# Altium integrated library Linear Technology Operational Amplifiers (LT1000).IntLib: 2280 symbols (part 38 of 79)
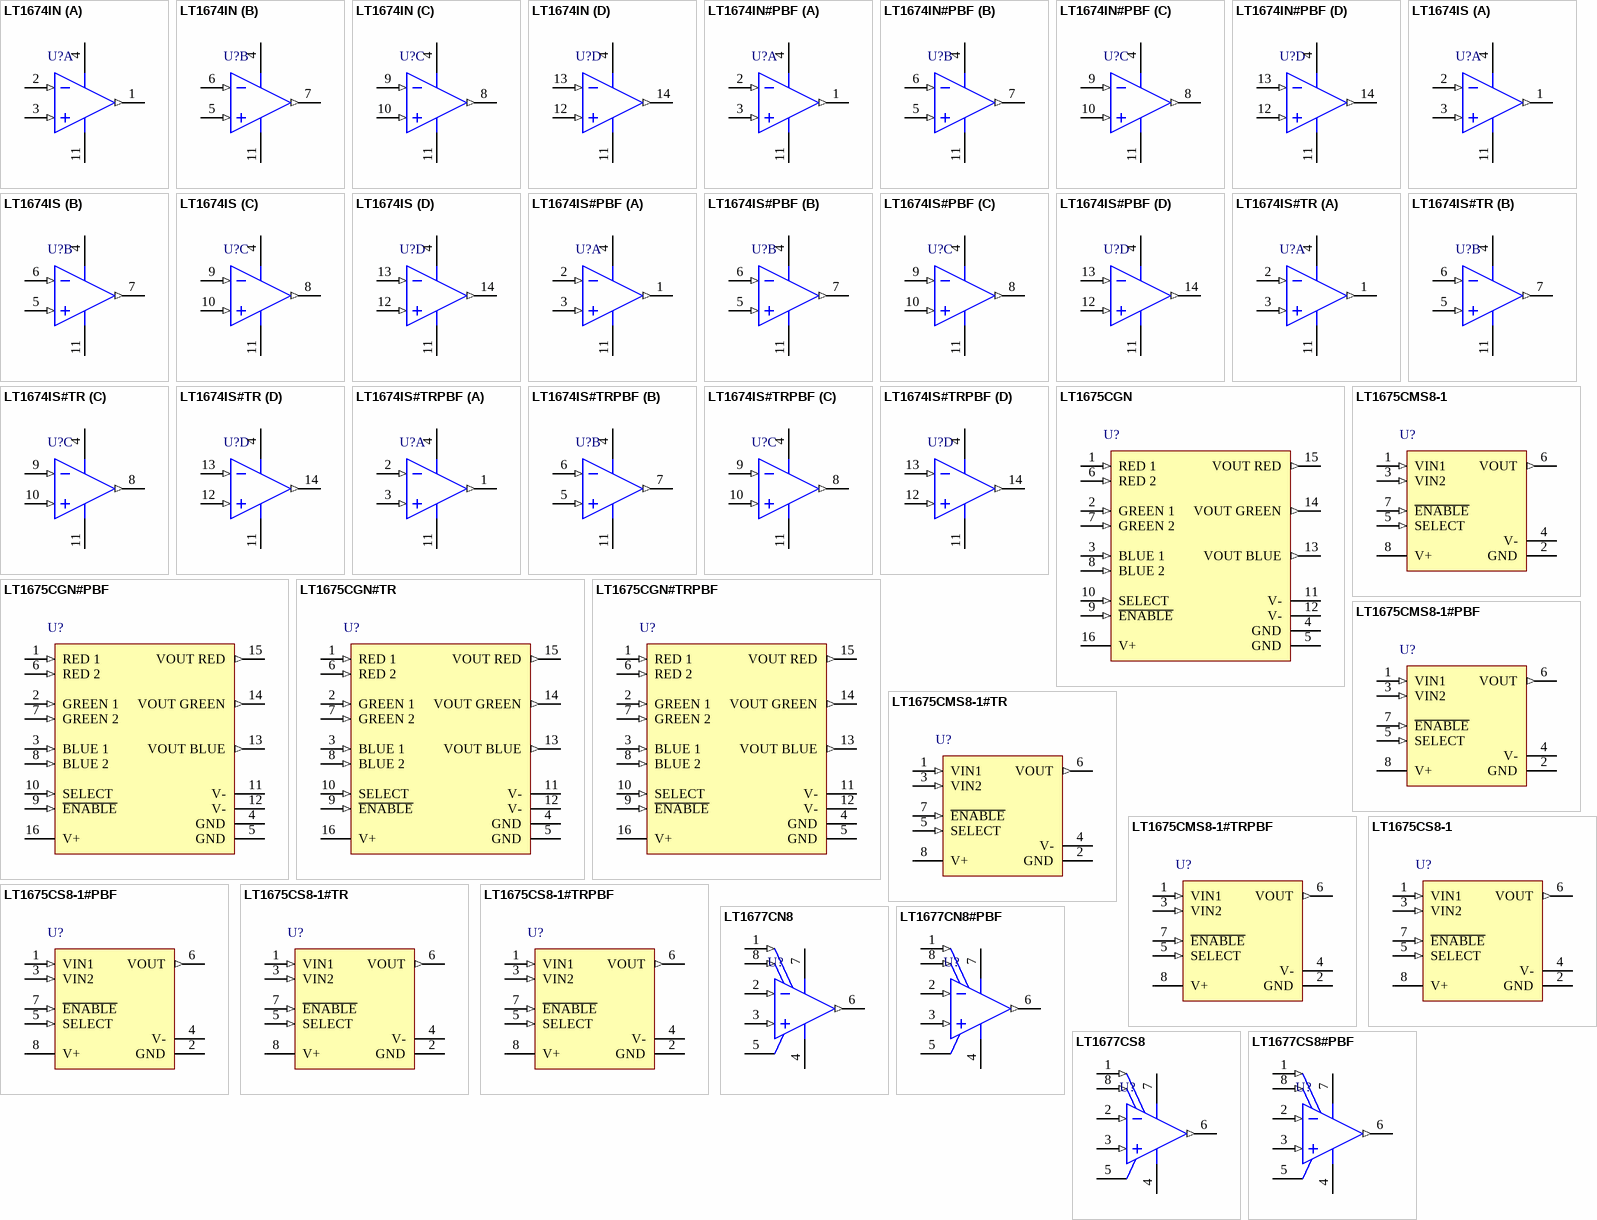
[diagram p142: symbols LT1674IN to LT1677CS8#PBF]

## LT1675CMS8-1#TR
designator U?
Single Channel, RGB Multiplexer with Amplifier, 250 MHz Typical GBW, 1100 V/us Typical SR, 5.2 to 12.6 V, 8-Pin SOP (MS8-8), Commercial, Reel; Linear Technology Part Number: LT1675-1; Manufacturer: Linear Technology; PartNumber: LT1675CMS8-1#TR; Channels (#): 1; GBW (MHz) Typical: 250; Is (mA) Typical: 11; SR (V/us) Typical: 1100; Vos (mV) Guaranteed: 40; Vos (mV) Typical: 20; Vs Max (V): 12.6; Vs Min (V): 5.2; DatasheetVersion: Rev. B; PackageVersion: Rev G; PackageReference: LT-MS8-8; PackageDescription: 8-Lead Plastic Small Outline, Body 3.9 x 4.9 mm, Pitch 1.27 mm; Supplier 1: Digi-Key; Supplier Part Number 1: LT1675CMS8-1#TR-ND; Packing: Reel; Type: VIDEO; Mounting Technology: Surface Mount; ComponentLink1Description: Manufacturer URL; ComponentLink1URL: http://www.linear.com/; ComponentLink2Description: Datasheet; ComponentLink2URL: http://cds.linear.com/docs/en/datasheet/1675fb.pdf; ComponentLink3Description: Package Specification; ComponentLink3URL: http://cds.linear.com/docs/en/packaging/05081610_G_SO8.pdf
footprint LT-MS8-8_N (SOP, 8-Leads, Body 3x3mm, Pitch 0.65mm, IPC Medium Density)
footprint LT-MS8-8_L (SOP, 8-Leads, Body 3x3mm, Pitch 0.65mm, IPC High Density)
footprint LT-MS8-8_M (SOP, 8-Leads, Body 3x3mm, Pitch 0.65mm, IPC Low Density)
pins: 1 VIN1 (in) "The 1V video input signal to be switched is applied to this pin. If 2V is applied to this pin, VOUT will clip. The input must be terminated", 2 GND (power) "Signal Ground. Connect to ground plane.", 3 VIN2 (in) "The 1V video input signal to be switched is applied to this pin. If 2V is applied to this pin, VOUT will clip. The input must be terminated.", 4 V- (power) "Connect this pin to -5V and bypass with good tantalum capacitor (4.7uF). The pin may also require a 0.1uF or 0.01uF depending on layout.", 5 SELECT (in) "Use this pin to select VIN1 or VIN2. Use this pin for fast toggling. HIGH Selects VIN1.", 6 VOUT (out) "It is twice VIN1 or VIN2 depending on which channel is selected by Pin 5. VOUT drives 50ohm or 75ohm double-terminated cables. Do not add capacitance to this pin.", 7 ~{ENABLE} (in) "Ground this pin for normal operation. Take this pin to within 300mV of V+, or open to shut down the part. This pin is also used for router applications. When the part is disabled, the supply current is 0.3uA.", 8 V+ (power) "Connect this pin to 5V and bypass with a good tantalum capacitor (4.7uF). The pin may also require a 0.1uF or 0.01uF depending on layout."

## LT1675CMS8-1#TRPBF
designator U?
Single Channel, RGB Multiplexer with Amplifier, 250 MHz Typical GBW, 1100 V/us Typical SR, 5.2 to 12.6 V, 8-Pin SOP (MS8-8), Commercial, Pb-Free, Reel; Linear Technology Part Number: LT1675-1; Manufacturer: Linear Technology; PartNumber: LT1675CMS8-1#TRPBF; Channels (#): 1; GBW (MHz) Typical: 250; Is (mA) Typical: 11; SR (V/us) Typical: 1100; Vos (mV) Guaranteed: 40; Vos (mV) Typical: 20; Vs Max (V): 12.6; Vs Min (V): 5.2; DatasheetVersion: Rev. B; PackageVersion: Rev G; PackageReference: LT-MS8-8; PackageDescription: 8-Lead Plastic Small Outline, Body 3.9 x 4.9 mm, Pitch 1.27 mm; Supplier 1: Digi-Key; Supplier Part Number 1: LT1675CMS8-1#TRPBF-ND; Supplier 2: Newark; Supplier Part Number 2: 57M5665; Packing: Reel; RoHS: Pb-Free; Type: VIDEO; Mounting Technology: Surface Mount; ComponentLink1Description: Manufacturer URL; ComponentLink1URL: http://www.linear.com/; ComponentLink2Description: Datasheet; ComponentLink2URL: http://cds.linear.com/docs/en/datasheet/1675fb.pdf; ComponentLink3Description: Package Specification; ComponentLink3URL: http://cds.linear.com/docs/en/packaging/05081610_G_SO8.pdf
footprint LT-MS8-8_N (SOP, 8-Leads, Body 3x3mm, Pitch 0.65mm, IPC Medium Density)
footprint LT-MS8-8_L (SOP, 8-Leads, Body 3x3mm, Pitch 0.65mm, IPC High Density)
footprint LT-MS8-8_M (SOP, 8-Leads, Body 3x3mm, Pitch 0.65mm, IPC Low Density)
pins: 1 VIN1 (in) "The 1V video input signal to be switched is applied to this pin. If 2V is applied to this pin, VOUT will clip. The input must be terminated", 2 GND (power) "Signal Ground. Connect to ground plane.", 3 VIN2 (in) "The 1V video input signal to be switched is applied to this pin. If 2V is applied to this pin, VOUT will clip. The input must be terminated.", 4 V- (power) "Connect this pin to -5V and bypass with good tantalum capacitor (4.7uF). The pin may also require a 0.1uF or 0.01uF depending on layout.", 5 SELECT (in) "Use this pin to select VIN1 or VIN2. Use this pin for fast toggling. HIGH Selects VIN1.", 6 VOUT (out) "It is twice VIN1 or VIN2 depending on which channel is selected by Pin 5. VOUT drives 50ohm or 75ohm double-terminated cables. Do not add capacitance to this pin.", 7 ~{ENABLE} (in) "Ground this pin for normal operation. Take this pin to within 300mV of V+, or open to shut down the part. This pin is also used for router applications. When the part is disabled, the supply current is 0.3uA.", 8 V+ (power) "Connect this pin to 5V and bypass with a good tantalum capacitor (4.7uF). The pin may also require a 0.1uF or 0.01uF depending on layout."

## LT1675CS8-1
designator U?
Single Channel, RGB Multiplexer with Amplifier, 250 MHz Typical GBW, 1100 V/us Typical SR, 5.2 to 12.6 V, 8-Pin SOIC (S8-8), Commercial; Linear Technology Part Number: LT1675-1; Manufacturer: Linear Technology; PartNumber: LT1675CS8-1; Channels (#): 1; GBW (MHz) Typical: 250; Is (mA) Typical: 11; SR (V/us) Typical: 1100; Vos (mV) Guaranteed: 40; Vos (mV) Typical: 20; Vs Max (V): 12.6; Vs Min (V): 5.2; DatasheetVersion: Rev. B; PackageVersion: Rev G; PackageReference: LT-S8-8; PackageDescription: 8-Pin Plastic Small Outline, Body 4.9 x 3.9 mm, Pitch 1.27 mm; Supplier 1: Digi-Key; Supplier Part Number 1: LT1675CS8-1-ND; Supplier 2: Newark; Supplier Part Number 2: 57M5666; Type: VIDEO; Mounting Technology: Surface Mount; ComponentLink1Description: Manufacturer URL; ComponentLink1URL: http://www.linear.com/; ComponentLink2Description: Datasheet; ComponentLink2URL: http://cds.linear.com/docs/en/datasheet/1675fb.pdf; ComponentLink3Description: Package Specification; ComponentLink3URL: http://cds.linear.com/docs/en/packaging/05081610_G_SO8.pdf
footprint LT-S8-8_N (SOIC, 8-Leads, Body 4.9x3.9mm, Pitch 1.27mm, IPC Medium Density)
footprint LT-S8-8_L (SOIC, 8-Leads, Body 4.9x3.9mm, Pitch 1.27mm, IPC High Density)
footprint LT-S8-8_M (SOIC, 8-Leads, Body 4.9x3.9mm, Pitch 1.27mm, IPC Low Density)
pins: 1 VIN1 (in), 2 GND (power), 3 VIN2 (in), 4 V- (power), 5 SELECT (in), 6 VOUT (out), 7 ~{ENABLE} (in), 8 V+ (power)

## LT1675CS8-1#PBF
designator U?
Single Channel, RGB Multiplexer with Amplifier, 250 MHz Typical GBW, 1100 V/us Typical SR, 5.2 to 12.6 V, 8-Pin SOIC (S8-8), Commercial, Pb-Free; Linear Technology Part Number: LT1675-1; Manufacturer: Linear Technology; PartNumber: LT1675CS8-1#PBF; Channels (#): 1; GBW (MHz) Typical: 250; Is (mA) Typical: 11; SR (V/us) Typical: 1100; Vos (mV) Guaranteed: 40; Vos (mV) Typical: 20; Vs Max (V): 12.6; Vs Min (V): 5.2; DatasheetVersion: Rev. B; PackageVersion: Rev G; PackageReference: LT-S8-8; PackageDescription: 8-Pin Plastic Small Outline, Body 4.9 x 3.9 mm, Pitch 1.27 mm; Supplier 1: Digi-Key; Supplier Part Number 1: LT1675CS8-1#PBF-ND; Supplier 2: Farnell; Supplier Part Number 2: 1663467; Supplier 3: Newark; Supplier Part Number 3: 57M5667; RoHS: Pb-Free; Type: VIDEO; Mounting Technology: Surface Mount; ComponentLink1Description: Manufacturer URL; ComponentLink1URL: http://www.linear.com/; ComponentLink2Description: Datasheet; ComponentLink2URL: http://cds.linear.com/docs/en/datasheet/1675fb.pdf; ComponentLink3Description: Package Specification; ComponentLink3URL: http://cds.linear.com/docs/en/packaging/05081610_G_SO8.pdf
footprint LT-S8-8_N (SOIC, 8-Leads, Body 4.9x3.9mm, Pitch 1.27mm, IPC Medium Density)
footprint LT-S8-8_L (SOIC, 8-Leads, Body 4.9x3.9mm, Pitch 1.27mm, IPC High Density)
footprint LT-S8-8_M (SOIC, 8-Leads, Body 4.9x3.9mm, Pitch 1.27mm, IPC Low Density)
pins: 1 VIN1 (in), 2 GND (power), 3 VIN2 (in), 4 V- (power), 5 SELECT (in), 6 VOUT (out), 7 ~{ENABLE} (in), 8 V+ (power)

## LT1675CS8-1#TR
designator U?
Single Channel, RGB Multiplexer with Amplifier, 250 MHz Typical GBW, 1100 V/us Typical SR, 5.2 to 12.6 V, 8-Pin SOIC (S8-8), Commercial, Reel; Linear Technology Part Number: LT1675-1; Manufacturer: Linear Technology; PartNumber: LT1675CS8-1#TR; Channels (#): 1; GBW (MHz) Typical: 250; Is (mA) Typical: 11; SR (V/us) Typical: 1100; Vos (mV) Guaranteed: 40; Vos (mV) Typical: 20; Vs Max (V): 12.6; Vs Min (V): 5.2; DatasheetVersion: Rev. B; PackageVersion: Rev G; PackageReference: LT-S8-8; PackageDescription: 8-Pin Plastic Small Outline, Body 4.9 x 3.9 mm, Pitch 1.27 mm; Supplier 1: Digi-Key; Supplier Part Number 1: LT1675CS8-1#TR-ND; Supplier 2: Newark; Supplier Part Number 2: 57M5668; Packing: Reel; Type: VIDEO; Mounting Technology: Surface Mount; ComponentLink1Description: Manufacturer URL; ComponentLink1URL: http://www.linear.com/; ComponentLink2Description: Datasheet; ComponentLink2URL: http://cds.linear.com/docs/en/datasheet/1675fb.pdf; ComponentLink3Description: Package Specification; ComponentLink3URL: http://cds.linear.com/docs/en/packaging/05081610_G_SO8.pdf
footprint LT-S8-8_N (SOIC, 8-Leads, Body 4.9x3.9mm, Pitch 1.27mm, IPC Medium Density)
footprint LT-S8-8_L (SOIC, 8-Leads, Body 4.9x3.9mm, Pitch 1.27mm, IPC High Density)
footprint LT-S8-8_M (SOIC, 8-Leads, Body 4.9x3.9mm, Pitch 1.27mm, IPC Low Density)
pins: 1 VIN1 (in), 2 GND (power), 3 VIN2 (in), 4 V- (power), 5 SELECT (in), 6 VOUT (out), 7 ~{ENABLE} (in), 8 V+ (power)

## LT1675CS8-1#TRPBF
designator U?
Single Channel, RGB Multiplexer with Amplifier, 250 MHz Typical GBW, 1100 V/us Typical SR, 5.2 to 12.6 V, 8-Pin SOIC (S8-8), Commercial, Pb-Free, Reel; Linear Technology Part Number: LT1675-1; Manufacturer: Linear Technology; PartNumber: LT1675CS8-1#TRPBF; Channels (#): 1; GBW (MHz) Typical: 250; Is (mA) Typical: 11; SR (V/us) Typical: 1100; Vos (mV) Guaranteed: 40; Vos (mV) Typical: 20; Vs Max (V): 12.6; Vs Min (V): 5.2; DatasheetVersion: Rev. B; PackageVersion: Rev G; PackageReference: LT-S8-8; PackageDescription: 8-Pin Plastic Small Outline, Body 4.9 x 3.9 mm, Pitch 1.27 mm; Supplier 1: Digi-Key; Supplier Part Number 1: LT1675CS8-1#TRPBF-ND; Packing: Reel; RoHS: Pb-Free; Type: VIDEO; Mounting Technology: Surface Mount; ComponentLink1Description: Manufacturer URL; ComponentLink1URL: http://www.linear.com/; ComponentLink2Description: Datasheet; ComponentLink2URL: http://cds.linear.com/docs/en/datasheet/1675fb.pdf; ComponentLink3Description: Package Specification; ComponentLink3URL: http://cds.linear.com/docs/en/packaging/05081610_G_SO8.pdf
footprint LT-S8-8_N (SOIC, 8-Leads, Body 4.9x3.9mm, Pitch 1.27mm, IPC Medium Density)
footprint LT-S8-8_L (SOIC, 8-Leads, Body 4.9x3.9mm, Pitch 1.27mm, IPC High Density)
footprint LT-S8-8_M (SOIC, 8-Leads, Body 4.9x3.9mm, Pitch 1.27mm, IPC Low Density)
pins: 1 VIN1 (in), 2 GND (power), 3 VIN2 (in), 4 V- (power), 5 SELECT (in), 6 VOUT (out), 7 ~{ENABLE} (in), 8 V+ (power)

## LT1677CN8
designator U?
Single Channel, High Loop Gain, Rail-to-Rail Precision Operational Amplifier, 7.2 MHz Typical GBW, 2.5 V/us Typical SR, 2.5 to 44 V, 8-Pin DIP (N8-8), Commercial; Linear Technology Part Number: LT1677; Manufacturer: Linear Technology; PartNumber: LT1677CN8; Channels (#): 1; GBW (MHz) Typical: 7.2; Is (mA) Typical: 2.75; SR (V/us) Typical: 2.5; Vos (mV) Guaranteed: 0.06; Vos (mV) Typical: 0.02; Vs Max (V): 44; DatasheetVersion: Rev. A; PackageVersion: Rev I; PackageReference: LT-N8-8; PackageDescription: 8-Lead PDIP, Body 10.16 x 6.48 mm, Pitch 2.54 mm; Supplier 1: Digi-Key; Supplier Part Number 1: LT1677CN8-ND; Type: VFB; Vs Min (V): 2.5; Mounting Technology: Through Hole; ComponentLink1Description: Manufacturer URL; ComponentLink1URL: http://www.linear.com/; ComponentLink2Description: Datasheet; ComponentLink2URL: http://cds.linear.com/docs/en/datasheet/1677fa.pdf; ComponentLink3Description: Package Specification; ComponentLink3URL: http://cds.linear.com/docs/en/packaging/05081510_I_N8.pdf
footprint LT-N8-8 (DIP, 8-Leads, Body 10.16x6.48mm, Pitch 2.54mm)
pins: 1 VOS TRIM (in), 2 -IN (in), 3 +IN (in), 4 -VS (power), 5 NC, 6 OUT (out), 7 +VS (power), 8 VOS TRIM (in)

## LT1677CN8#PBF
designator U?
Single Channel, High Loop Gain, Rail-to-Rail Precision Operational Amplifier, 7.2 MHz Typical GBW, 2.5 V/us Typical SR, 2.5 to 44 V, 8-Pin DIP (N8-8), Commercial, Pb-Free; Linear Technology Part Number: LT1677; Manufacturer: Linear Technology; PartNumber: LT1677CN8#PBF; Channels (#): 1; GBW (MHz) Typical: 7.2; Is (mA) Typical: 2.75; SR (V/us) Typical: 2.5; Vos (mV) Guaranteed: 0.06; Vos (mV) Typical: 0.02; Vs Max (V): 44; DatasheetVersion: Rev. A; PackageVersion: Rev I; PackageReference: LT-N8-8; PackageDescription: 8-Lead PDIP, Body 10.16 x 6.48 mm, Pitch 2.54 mm; Supplier 1: Digi-Key; Supplier Part Number 1: LT1677CN8#PBF-ND; Supplier 2: Farnell; Supplier Part Number 2: 1627558; Supplier 3: Newark; Supplier Part Number 3: 57M5683; RoHS: Pb-Free; Type: VFB; Vs Min (V): 2.5; Mounting Technology: Surface Mount; ComponentLink1Description: Manufacturer URL; ComponentLink1URL: http://www.linear.com/; ComponentLink2Description: Datasheet; ComponentLink2URL: http://cds.linear.com/docs/en/datasheet/1677fa.pdf; ComponentLink3Description: Package Specification; ComponentLink3URL: http://cds.linear.com/docs/en/packaging/05081510_I_N8.pdf
footprint LT-N8-8 (DIP, 8-Leads, Body 10.16x6.48mm, Pitch 2.54mm)
pins: 1 VOS TRIM (in), 2 -IN (in), 3 +IN (in), 4 -VS (power), 5 NC, 6 OUT (out), 7 +VS (power), 8 VOS TRIM (in)

## LT1677CS8
designator U?
Single Channel, High Loop Gain, Rail-to-Rail Precision Operational Amplifier, 7.2 MHz Typical GBW, 2.5 V/us Typical SR, 2.5 to 44 V, 8-Pin SOIC (S8-8), Commercial; Linear Technology Part Number: LT1677; Manufacturer: Linear Technology; PartNumber: LT1677CS8; Channels (#): 1; GBW (MHz) Typical: 7.2; Is (mA) Typical: 2.75; SR (V/us) Typical: 2.5; Vos (mV) Guaranteed: 0.06; Vos (mV) Typical: 0.02; Vs Max (V): 44; DatasheetVersion: Rev. A; PackageVersion: Rev G; PackageReference: LT-S8-8; PackageDescription: 8-Pin Plastic Small Outline, Body 4.9 x 3.9 mm, Pitch 1.27 mm; Supplier 1: Digi-Key; Supplier Part Number 1: LT1677CS8-ND; Supplier 2: Newark; Supplier Part Number 2: 57M5684; Type: VFB; Vs Min (V): 2.5; Mounting Technology: Surface Mount; ComponentLink1Description: Manufacturer URL; ComponentLink1URL: http://www.linear.com/; ComponentLink2Description: Datasheet; ComponentLink2URL: http://cds.linear.com/docs/en/datasheet/1677fa.pdf; ComponentLink3Description: Package Specification; ComponentLink3URL: http://cds.linear.com/docs/en/packaging/05081610_G_SO8.pdf
footprint LT-S8-8_N (SOIC, 8-Leads, Body 4.9x3.9mm, Pitch 1.27mm, IPC Medium Density)
footprint LT-S8-8_L (SOIC, 8-Leads, Body 4.9x3.9mm, Pitch 1.27mm, IPC High Density)
footprint LT-S8-8_M (SOIC, 8-Leads, Body 4.9x3.9mm, Pitch 1.27mm, IPC Low Density)
pins: 1 VOS TRIM (in), 2 -IN (in), 3 +IN (in), 4 -VS (power), 5 NC, 6 OUT (out), 7 +VS (power), 8 VOS TRIM (in)

## LT1677CS8#PBF
designator U?
Single Channel, High Loop Gain, Rail-to-Rail Precision Operational Amplifier, 7.2 MHz Typical GBW, 2.5 V/us Typical SR, 2.5 to 44 V, 8-Pin SOIC (S8-8), Commercial, Pb-Free; Linear Technology Part Number: LT1677; Manufacturer: Linear Technology; PartNumber: LT1677CS8#PBF; Channels (#): 1; GBW (MHz) Typical: 7.2; Is (mA) Typical: 2.75; SR (V/us) Typical: 2.5; Vos (mV) Guaranteed: 0.06; Vos (mV) Typical: 0.02; Vs Max (V): 44; DatasheetVersion: Rev. A; PackageVersion: Rev G; PackageReference: LT-S8-8; PackageDescription: 8-Pin Plastic Small Outline, Body 4.9 x 3.9 mm, Pitch 1.27 mm; Supplier 1: Digi-Key; Supplier Part Number 1: LT1677CS8#PBF-ND; Supplier 2: Farnell; Supplier Part Number 2: 1330687; Supplier 3: Newark; Supplier Part Number 3: 57M5685; RoHS: Pb-Free; Type: VFB; Vs Min (V): 2.5; Mounting Technology: Surface Mount; ComponentLink1Description: Manufacturer URL; ComponentLink1URL: http://www.linear.com/; ComponentLink2Description: Datasheet; ComponentLink2URL: http://cds.linear.com/docs/en/datasheet/1677fa.pdf; ComponentLink3Description: Package Specification; ComponentLink3URL: http://cds.linear.com/docs/en/packaging/05081610_G_SO8.pdf
footprint LT-S8-8_N (SOIC, 8-Leads, Body 4.9x3.9mm, Pitch 1.27mm, IPC Medium Density)
footprint LT-S8-8_L (SOIC, 8-Leads, Body 4.9x3.9mm, Pitch 1.27mm, IPC High Density)
footprint LT-S8-8_M (SOIC, 8-Leads, Body 4.9x3.9mm, Pitch 1.27mm, IPC Low Density)
pins: 1 VOS TRIM (in), 2 -IN (in), 3 +IN (in), 4 -VS (power), 5 NC, 6 OUT (out), 7 +VS (power), 8 VOS TRIM (in)

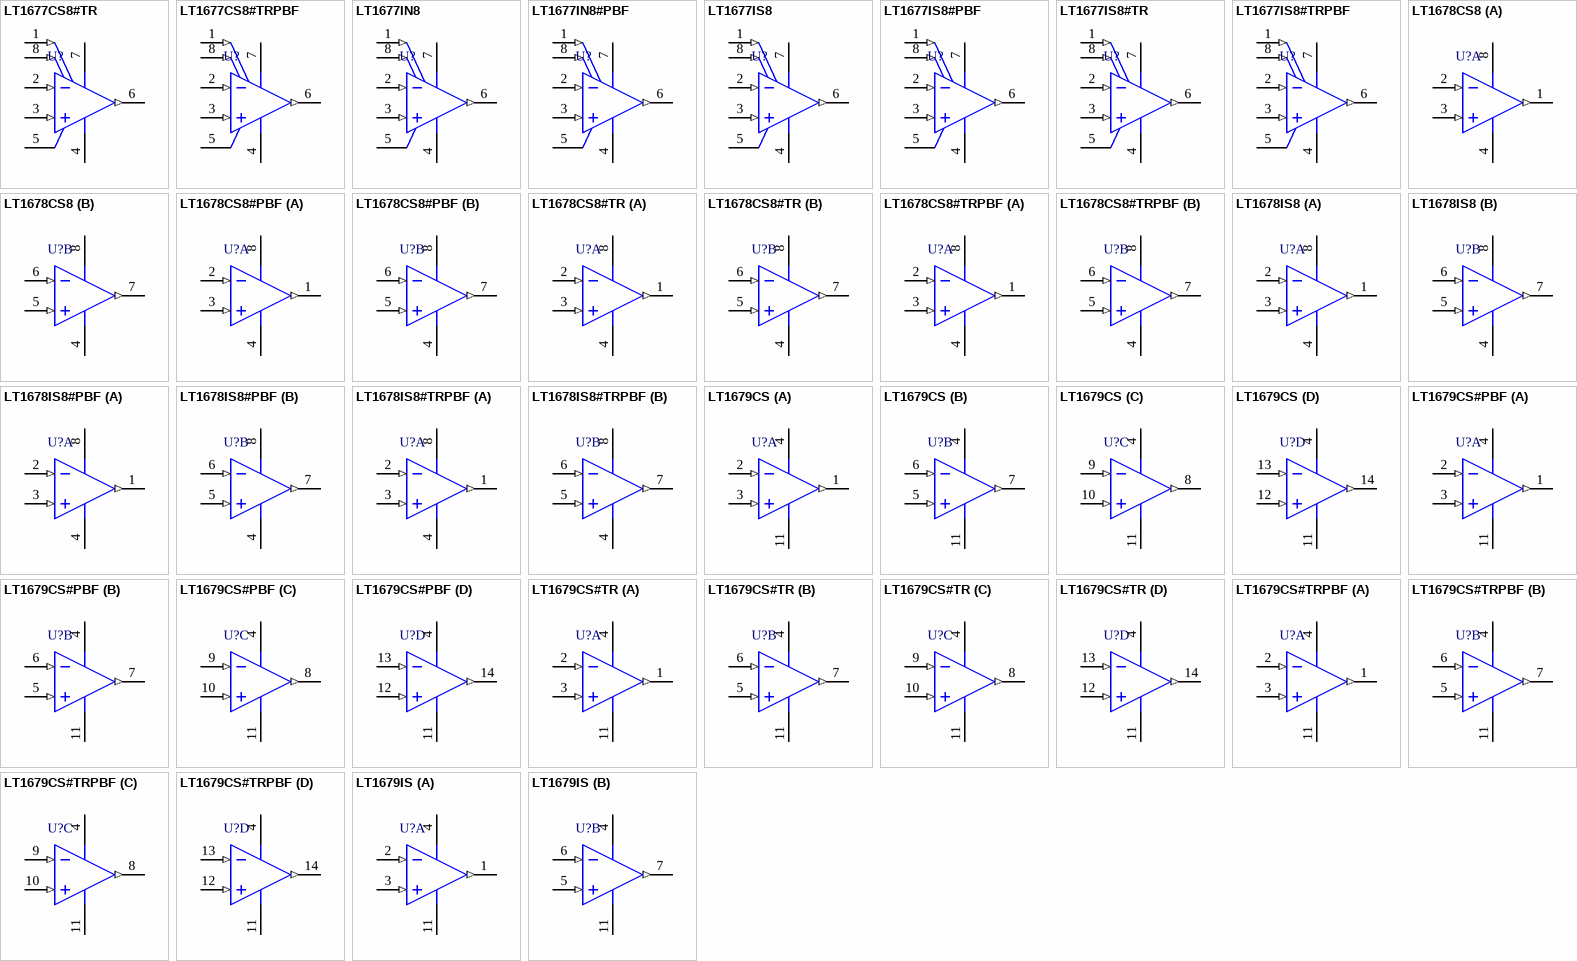
[diagram p65: symbols LT1677CS8#TR to LT1679IS]

## LT1677CS8#TR
designator U?
Single Channel, High Loop Gain, Rail-to-Rail Precision Operational Amplifier, 7.2 MHz Typical GBW, 2.5 V/us Typical SR, 2.5 to 44 V, 8-Pin SOIC (S8-8), Commercial, Reel; Linear Technology Part Number: LT1677; Manufacturer: Linear Technology; PartNumber: LT1677CS8#TR; Channels (#): 1; GBW (MHz) Typical: 7.2; Is (mA) Typical: 2.75; SR (V/us) Typical: 2.5; Vos (mV) Guaranteed: 0.06; Vos (mV) Typical: 0.02; Vs Max (V): 44; DatasheetVersion: Rev. A; PackageVersion: Rev G; PackageReference: LT-S8-8; PackageDescription: 8-Pin Plastic Small Outline, Body 4.9 x 3.9 mm, Pitch 1.27 mm; Supplier 1: Digi-Key; Supplier Part Number 1: LT1677CS8#TR-ND; Packing: Reel; Type: VFB; Vs Min (V): 2.5; Mounting Technology: Surface Mount; ComponentLink1Description: Manufacturer URL; ComponentLink1URL: http://www.linear.com/; ComponentLink2Description: Datasheet; ComponentLink2URL: http://cds.linear.com/docs/en/datasheet/1677fa.pdf; ComponentLink3Description: Package Specification; ComponentLink3URL: http://cds.linear.com/docs/en/packaging/05081610_G_SO8.pdf
footprint LT-S8-8_N (SOIC, 8-Leads, Body 4.9x3.9mm, Pitch 1.27mm, IPC Medium Density)
footprint LT-S8-8_L (SOIC, 8-Leads, Body 4.9x3.9mm, Pitch 1.27mm, IPC High Density)
footprint LT-S8-8_M (SOIC, 8-Leads, Body 4.9x3.9mm, Pitch 1.27mm, IPC Low Density)
pins: 1 VOS TRIM (in), 2 -IN (in), 3 +IN (in), 4 -VS (power), 5 NC, 6 OUT (out), 7 +VS (power), 8 VOS TRIM (in)

## LT1677CS8#TRPBF
designator U?
Single Channel, High Loop Gain, Rail-to-Rail Precision Operational Amplifier, 7.2 MHz Typical GBW, 2.5 V/us Typical SR, 2.5 to 44 V, 8-Pin SOIC (S8-8), Commercial, Pb-Free, Reel; Linear Technology Part Number: LT1677; Manufacturer: Linear Technology; PartNumber: LT1677CS8#TRPBF; Channels (#): 1; GBW (MHz) Typical: 7.2; Is (mA) Typical: 2.75; SR (V/us) Typical: 2.5; Vos (mV) Guaranteed: 0.06; Vos (mV) Typical: 0.02; Vs Max (V): 44; DatasheetVersion: Rev. A; PackageVersion: Rev G; PackageReference: LT-S8-8; PackageDescription: 8-Pin Plastic Small Outline, Body 4.9 x 3.9 mm, Pitch 1.27 mm; Supplier 1: Digi-Key; Supplier Part Number 1: LT1677CS8#TRPBF-ND; Supplier 2: Newark; Supplier Part Number 2: 57M5687; Packing: Reel; RoHS: Pb-Free; Type: VFB; Vs Min (V): 2.5; Mounting Technology: Surface Mount; ComponentLink1Description: Manufacturer URL; ComponentLink1URL: http://www.linear.com/; ComponentLink2Description: Datasheet; ComponentLink2URL: http://cds.linear.com/docs/en/datasheet/1677fa.pdf; ComponentLink3Description: Package Specification; ComponentLink3URL: http://cds.linear.com/docs/en/packaging/05081610_G_SO8.pdf
footprint LT-S8-8_N (SOIC, 8-Leads, Body 4.9x3.9mm, Pitch 1.27mm, IPC Medium Density)
footprint LT-S8-8_L (SOIC, 8-Leads, Body 4.9x3.9mm, Pitch 1.27mm, IPC High Density)
footprint LT-S8-8_M (SOIC, 8-Leads, Body 4.9x3.9mm, Pitch 1.27mm, IPC Low Density)
pins: 1 VOS TRIM (in), 2 -IN (in), 3 +IN (in), 4 -VS (power), 5 NC, 6 OUT (out), 7 +VS (power), 8 VOS TRIM (in)

## LT1677IN8
designator U?
Single Channel, High Loop Gain, Rail-to-Rail Precision Operational Amplifier, 7.2 MHz Typical GBW, 2.5 V/us Typical SR, 2.5 to 44 V, 8-Pin DIP (N8-8), Industrial; Linear Technology Part Number: LT1677; Manufacturer: Linear Technology; PartNumber: LT1677IN8; Channels (#): 1; GBW (MHz) Typical: 7.2; Is (mA) Typical: 2.75; SR (V/us) Typical: 2.5; Vos (mV) Guaranteed: 0.06; Vos (mV) Typical: 0.02; Vs Max (V): 44; DatasheetVersion: Rev. A; PackageVersion: Rev I; PackageReference: LT-N8-8; PackageDescription: 8-Lead PDIP, Body 10.16 x 6.48 mm, Pitch 2.54 mm; Supplier 1: Digi-Key; Supplier Part Number 1: LT1677IN8-ND; Type: VFB; Vs Min (V): 2.5; Mounting Technology: Through Hole; ComponentLink1Description: Manufacturer URL; ComponentLink1URL: http://www.linear.com/; ComponentLink2Description: Datasheet; ComponentLink2URL: http://cds.linear.com/docs/en/datasheet/1677fa.pdf; ComponentLink3Description: Package Specification; ComponentLink3URL: http://cds.linear.com/docs/en/packaging/05081510_I_N8.pdf
footprint LT-N8-8 (DIP, 8-Leads, Body 10.16x6.48mm, Pitch 2.54mm)
pins: 1 VOS TRIM (in), 2 -IN (in), 3 +IN (in), 4 -VS (power), 5 NC, 6 OUT (out), 7 +VS (power), 8 VOS TRIM (in)

## LT1677IN8#PBF
designator U?
Single Channel, High Loop Gain, Rail-to-Rail Precision Operational Amplifier, 7.2 MHz Typical GBW, 2.5 V/us Typical SR, 2.5 to 44 V, 8-Pin DIP (N8-8), Industrial, Pb-Free; Linear Technology Part Number: LT1677; Manufacturer: Linear Technology; PartNumber: LT1677IN8#PBF; Channels (#): 1; GBW (MHz) Typical: 7.2; Is (mA) Typical: 2.75; SR (V/us) Typical: 2.5; Vos (mV) Guaranteed: 0.06; Vos (mV) Typical: 0.02; Vs Max (V): 44; DatasheetVersion: Rev. A; PackageVersion: Rev I; PackageReference: LT-N8-8; PackageDescription: 8-Lead PDIP, Body 10.16 x 6.48 mm, Pitch 2.54 mm; Supplier 1: Digi-Key; Supplier Part Number 1: LT1677IN8#PBF-ND; RoHS: Pb-Free; Type: VFB; Vs Min (V): 2.5; Mounting Technology: Surface Mount; ComponentLink1Description: Manufacturer URL; ComponentLink1URL: http://www.linear.com/; ComponentLink2Description: Datasheet; ComponentLink2URL: http://cds.linear.com/docs/en/datasheet/1677fa.pdf; ComponentLink3Description: Package Specification; ComponentLink3URL: http://cds.linear.com/docs/en/packaging/05081510_I_N8.pdf
footprint LT-N8-8 (DIP, 8-Leads, Body 10.16x6.48mm, Pitch 2.54mm)
pins: 1 VOS TRIM (in), 2 -IN (in), 3 +IN (in), 4 -VS (power), 5 NC, 6 OUT (out), 7 +VS (power), 8 VOS TRIM (in)

## LT1677IS8
designator U?
Single Channel, High Loop Gain, Rail-to-Rail Precision Operational Amplifier, 7.2 MHz Typical GBW, 2.5 V/us Typical SR, 2.5 to 44 V, 8-Pin SOIC (S8-8), Industrial; Linear Technology Part Number: LT1677; Manufacturer: Linear Technology; PartNumber: LT1677IS8; Channels (#): 1; GBW (MHz) Typical: 7.2; Is (mA) Typical: 2.75; SR (V/us) Typical: 2.5; Vos (mV) Guaranteed: 0.06; Vos (mV) Typical: 0.02; Vs Max (V): 44; DatasheetVersion: Rev. A; PackageVersion: Rev G; PackageReference: LT-S8-8; PackageDescription: 8-Pin Plastic Small Outline, Body 4.9 x 3.9 mm, Pitch 1.27 mm; Supplier 1: Digi-Key; Supplier Part Number 1: LT1677IS8-ND; Supplier 2: Newark; Supplier Part Number 2: 57M5690; Type: VFB; Vs Min (V): 2.5; Mounting Technology: Surface Mount; ComponentLink1Description: Manufacturer URL; ComponentLink1URL: http://www.linear.com/; ComponentLink2Description: Datasheet; ComponentLink2URL: http://cds.linear.com/docs/en/datasheet/1677fa.pdf; ComponentLink3Description: Package Specification; ComponentLink3URL: http://cds.linear.com/docs/en/packaging/05081610_G_SO8.pdf
footprint LT-S8-8_N (SOIC, 8-Leads, Body 4.9x3.9mm, Pitch 1.27mm, IPC Medium Density)
footprint LT-S8-8_L (SOIC, 8-Leads, Body 4.9x3.9mm, Pitch 1.27mm, IPC High Density)
footprint LT-S8-8_M (SOIC, 8-Leads, Body 4.9x3.9mm, Pitch 1.27mm, IPC Low Density)
pins: 1 VOS TRIM (in), 2 -IN (in), 3 +IN (in), 4 -VS (power), 5 NC, 6 OUT (out), 7 +VS (power), 8 VOS TRIM (in)

## LT1677IS8#PBF
designator U?
Single Channel, High Loop Gain, Rail-to-Rail Precision Operational Amplifier, 7.2 MHz Typical GBW, 2.5 V/us Typical SR, 2.5 to 44 V, 8-Pin SOIC (S8-8), Industrial, Pb-Free; Linear Technology Part Number: LT1677; Manufacturer: Linear Technology; PartNumber: LT1677IS8#PBF; Channels (#): 1; GBW (MHz) Typical: 7.2; Is (mA) Typical: 2.75; SR (V/us) Typical: 2.5; Vos (mV) Guaranteed: 0.06; Vos (mV) Typical: 0.02; Vs Max (V): 44; DatasheetVersion: Rev. A; PackageVersion: Rev G; PackageReference: LT-S8-8; PackageDescription: 8-Pin Plastic Small Outline, Body 4.9 x 3.9 mm, Pitch 1.27 mm; Supplier 1: Digi-Key; Supplier Part Number 1: LT1677IS8#PBF-ND; Supplier 2: Farnell; Supplier Part Number 2: 2115807; Supplier 3: Newark; Supplier Part Number 3: 57M5691; RoHS: Pb-Free; Type: VFB; Vs Min (V): 2.5; Mounting Technology: Surface Mount; ComponentLink1Description: Manufacturer URL; ComponentLink1URL: http://www.linear.com/; ComponentLink2Description: Datasheet; ComponentLink2URL: http://cds.linear.com/docs/en/datasheet/1677fa.pdf; ComponentLink3Description: Package Specification; ComponentLink3URL: http://cds.linear.com/docs/en/packaging/05081610_G_SO8.pdf
footprint LT-S8-8_N (SOIC, 8-Leads, Body 4.9x3.9mm, Pitch 1.27mm, IPC Medium Density)
footprint LT-S8-8_L (SOIC, 8-Leads, Body 4.9x3.9mm, Pitch 1.27mm, IPC High Density)
footprint LT-S8-8_M (SOIC, 8-Leads, Body 4.9x3.9mm, Pitch 1.27mm, IPC Low Density)
pins: 1 VOS TRIM (in), 2 -IN (in), 3 +IN (in), 4 -VS (power), 5 NC, 6 OUT (out), 7 +VS (power), 8 VOS TRIM (in)

## LT1677IS8#TR
designator U?
Single Channel, High Loop Gain, Rail-to-Rail Precision Operational Amplifier, 7.2 MHz Typical GBW, 2.5 V/us Typical SR, 2.5 to 44 V, 8-Pin SOIC (S8-8), Industrial, Reel; Linear Technology Part Number: LT1677; Manufacturer: Linear Technology; PartNumber: LT1677IS8#TR; Channels (#): 1; GBW (MHz) Typical: 7.2; Is (mA) Typical: 2.75; SR (V/us) Typical: 2.5; Vos (mV) Guaranteed: 0.06; Vos (mV) Typical: 0.02; Vs Max (V): 44; DatasheetVersion: Rev. A; PackageVersion: Rev G; PackageReference: LT-S8-8; PackageDescription: 8-Pin Plastic Small Outline, Body 4.9 x 3.9 mm, Pitch 1.27 mm; Supplier 1: Digi-Key; Supplier Part Number 1: LT1677IS8#TR-ND; Supplier 2: Newark; Supplier Part Number 2: 57M5692; Packing: Reel; Type: VFB; Vs Min (V): 2.5; Mounting Technology: Surface Mount; ComponentLink1Description: Manufacturer URL; ComponentLink1URL: http://www.linear.com/; ComponentLink2Description: Datasheet; ComponentLink2URL: http://cds.linear.com/docs/en/datasheet/1677fa.pdf; ComponentLink3Description: Package Specification; ComponentLink3URL: http://cds.linear.com/docs/en/packaging/05081610_G_SO8.pdf
footprint LT-S8-8_N (SOIC, 8-Leads, Body 4.9x3.9mm, Pitch 1.27mm, IPC Medium Density)
footprint LT-S8-8_L (SOIC, 8-Leads, Body 4.9x3.9mm, Pitch 1.27mm, IPC High Density)
footprint LT-S8-8_M (SOIC, 8-Leads, Body 4.9x3.9mm, Pitch 1.27mm, IPC Low Density)
pins: 1 VOS TRIM (in), 2 -IN (in), 3 +IN (in), 4 -VS (power), 5 NC, 6 OUT (out), 7 +VS (power), 8 VOS TRIM (in)

## LT1677IS8#TRPBF
designator U?
Single Channel, High Loop Gain, Rail-to-Rail Precision Operational Amplifier, 7.2 MHz Typical GBW, 2.5 V/us Typical SR, 2.5 to 44 V, 8-Pin SOIC (S8-8), Industrial, Pb-Free, Reel; Linear Technology Part Number: LT1677; Manufacturer: Linear Technology; PartNumber: LT1677IS8#TRPBF; Channels (#): 1; GBW (MHz) Typical: 7.2; Is (mA) Typical: 2.75; SR (V/us) Typical: 2.5; Vos (mV) Guaranteed: 0.06; Vos (mV) Typical: 0.02; Vs Max (V): 44; DatasheetVersion: Rev. A; PackageVersion: Rev G; PackageReference: LT-S8-8; PackageDescription: 8-Pin Plastic Small Outline, Body 4.9 x 3.9 mm, Pitch 1.27 mm; Supplier 1: Digi-Key; Supplier Part Number 1: LT1677IS8#TRPBF-ND; Supplier 2: Newark; Supplier Part Number 2: 57M5693; Packing: Reel; RoHS: Pb-Free; Type: VFB; Vs Min (V): 2.5; Mounting Technology: Surface Mount; ComponentLink1Description: Manufacturer URL; ComponentLink1URL: http://www.linear.com/; ComponentLink2Description: Datasheet; ComponentLink2URL: http://cds.linear.com/docs/en/datasheet/1677fa.pdf; ComponentLink3Description: Package Specification; ComponentLink3URL: http://cds.linear.com/docs/en/packaging/05081610_G_SO8.pdf
footprint LT-S8-8_N (SOIC, 8-Leads, Body 4.9x3.9mm, Pitch 1.27mm, IPC Medium Density)
footprint LT-S8-8_L (SOIC, 8-Leads, Body 4.9x3.9mm, Pitch 1.27mm, IPC High Density)
footprint LT-S8-8_M (SOIC, 8-Leads, Body 4.9x3.9mm, Pitch 1.27mm, IPC Low Density)
pins: 1 VOS TRIM (in), 2 -IN (in), 3 +IN (in), 4 -VS (power), 5 NC, 6 OUT (out), 7 +VS (power), 8 VOS TRIM (in)

## LT1678CS8
designator U?
Dual Channel, Very Low 1/f Corner Frequency Precision Operational Amplifier, 20 MHz Typical GBW, 6 V/us Typical SR, 3 to 36 V, 8-Pin SOIC (S8-8), Commercial; Linear Technology Part Number: LT1678; Manufacturer: Linear Technology; PartNumber: LT1678CS8; Channels (#): 2; GBW (MHz) Typical: 20; SR (V/us) Typical: 6; Vos (mV) Guaranteed: 0.1; Vos (mV) Typical: 0.035; Vs Max (V): 36; Vs Min (V): 3; PackageVersion: Rev G; PackageReference: LT-S8-8; PackageDescription: 8-Pin Plastic Small Outline, Body 4.9 x 3.9 mm, Pitch 1.27 mm; Supplier 1: Digi-Key; Supplier Part Number 1: LT1678CS8-ND; Supplier 2: Newark; Supplier Part Number 2: 57M5694; Is (mA) Typical: 2; Type: VFB; Mounting Technology: Surface Mount; ComponentLink1Description: Manufacturer URL; ComponentLink1URL: http://www.linear.com/; ComponentLink2Description: Datasheet; ComponentLink2URL: http://cds.linear.com/docs/en/datasheet/16789fs.pdf; ComponentLink3Description: Package Specification; ComponentLink3URL: http://cds.linear.com/docs/en/packaging/05081610_G_SO8.pdf
footprint LT-S8-8_N (SOIC, 8-Leads, Body 4.9x3.9mm, Pitch 1.27mm, IPC Medium Density)
footprint LT-S8-8_L (SOIC, 8-Leads, Body 4.9x3.9mm, Pitch 1.27mm, IPC High Density)
footprint LT-S8-8_M (SOIC, 8-Leads, Body 4.9x3.9mm, Pitch 1.27mm, IPC Low Density)
pins on every part: 4 V- (power), 8 V+ (power)
part A pins: 1 OUT A (out), 2 -IN A (in), 3 +IN A (in)
part B pins: 5 +IN B (in), 6 -IN B (in), 7 OUT B (out)

## LT1678CS8#PBF
designator U?
Dual Channel, Very Low 1/f Corner Frequency Precision Operational Amplifier, 20 MHz Typical GBW, 6 V/us Typical SR, 3 to 36 V, 8-Pin SOIC (S8-8), Commercial, Pb-Free; Linear Technology Part Number: LT1678; Manufacturer: Linear Technology; PartNumber: LT1678CS8#PBF; Channels (#): 2; GBW (MHz) Typical: 20; SR (V/us) Typical: 6; Vos (mV) Guaranteed: 0.1; Vos (mV) Typical: 0.035; Vs Max (V): 36; Vs Min (V): 3; PackageVersion: Rev G; PackageReference: LT-S8-8; PackageDescription: 8-Pin Plastic Small Outline, Body 4.9 x 3.9 mm, Pitch 1.27 mm; Supplier 1: Digi-Key; Supplier Part Number 1: LT1678CS8#PBF-ND; Supplier 2: Farnell; Supplier Part Number 2: 1330689; Supplier 3: Newark; Supplier Part Number 3: 57M5695; Is (mA) Typical: 2; RoHS: Pb-Free; Type: VFB; Mounting Technology: Surface Mount; ComponentLink1Description: Manufacturer URL; ComponentLink1URL: http://www.linear.com/; ComponentLink2Description: Datasheet; ComponentLink2URL: http://cds.linear.com/docs/en/datasheet/16789fs.pdf; ComponentLink3Description: Package Specification; ComponentLink3URL: http://cds.linear.com/docs/en/packaging/05081610_G_SO8.pdf
footprint LT-S8-8_N (SOIC, 8-Leads, Body 4.9x3.9mm, Pitch 1.27mm, IPC Medium Density)
footprint LT-S8-8_L (SOIC, 8-Leads, Body 4.9x3.9mm, Pitch 1.27mm, IPC High Density)
footprint LT-S8-8_M (SOIC, 8-Leads, Body 4.9x3.9mm, Pitch 1.27mm, IPC Low Density)
pins on every part: 4 V- (power), 8 V+ (power)
part A pins: 1 OUT A (out), 2 -IN A (in), 3 +IN A (in)
part B pins: 5 +IN B (in), 6 -IN B (in), 7 OUT B (out)

## LT1678CS8#TR
designator U?
Dual Channel, Very Low 1/f Corner Frequency Precision Operational Amplifier, 20 MHz Typical GBW, 6 V/us Typical SR, 3 to 36 V, 8-Pin SOIC (S8-8), Commercial, Reel; Linear Technology Part Number: LT1678; Manufacturer: Linear Technology; PartNumber: LT1678CS8#TR; Channels (#): 2; GBW (MHz) Typical: 20; SR (V/us) Typical: 6; Vos (mV) Guaranteed: 0.1; Vos (mV) Typical: 0.035; Vs Max (V): 36; Vs Min (V): 3; PackageVersion: Rev G; PackageReference: LT-S8-8; PackageDescription: 8-Pin Plastic Small Outline, Body 4.9 x 3.9 mm, Pitch 1.27 mm; Supplier 1: Digi-Key; Supplier Part Number 1: LT1678CS8#TR-ND; Is (mA) Typical: 2; Packing: Reel; Type: VFB; Mounting Technology: Surface Mount; ComponentLink1Description: Manufacturer URL; ComponentLink1URL: http://www.linear.com/; ComponentLink2Description: Datasheet; ComponentLink2URL: http://cds.linear.com/docs/en/datasheet/16789fs.pdf; ComponentLink3Description: Package Specification; ComponentLink3URL: http://cds.linear.com/docs/en/packaging/05081610_G_SO8.pdf
footprint LT-S8-8_N (SOIC, 8-Leads, Body 4.9x3.9mm, Pitch 1.27mm, IPC Medium Density)
footprint LT-S8-8_L (SOIC, 8-Leads, Body 4.9x3.9mm, Pitch 1.27mm, IPC High Density)
footprint LT-S8-8_M (SOIC, 8-Leads, Body 4.9x3.9mm, Pitch 1.27mm, IPC Low Density)
pins on every part: 4 V- (power), 8 V+ (power)
part A pins: 1 OUT A (out), 2 -IN A (in), 3 +IN A (in)
part B pins: 5 +IN B (in), 6 -IN B (in), 7 OUT B (out)

## LT1678CS8#TRPBF
designator U?
Dual Channel, Very Low 1/f Corner Frequency Precision Operational Amplifier, 20 MHz Typical GBW, 6 V/us Typical SR, 3 to 36 V, 8-Pin SOIC (S8-8), Commercial, Pb-Free, Reel; Linear Technology Part Number: LT1678; Manufacturer: Linear Technology; PartNumber: LT1678CS8#TRPBF; Channels (#): 2; GBW (MHz) Typical: 20; SR (V/us) Typical: 6; Vos (mV) Guaranteed: 0.1; Vos (mV) Typical: 0.035; Vs Max (V): 36; Vs Min (V): 3; PackageVersion: Rev G; PackageReference: LT-S8-8; PackageDescription: 8-Pin Plastic Small Outline, Body 4.9 x 3.9 mm, Pitch 1.27 mm; Supplier 1: Digi-Key; Supplier Part Number 1: LT1678CS8#TRPBF-ND; Supplier 2: Newark; Supplier Part Number 2: 57M5697; Is (mA) Typical: 2; Packing: Reel; RoHS: Pb-Free; Type: VFB; Mounting Technology: Surface Mount; ComponentLink1Description: Manufacturer URL; ComponentLink1URL: http://www.linear.com/; ComponentLink2Description: Datasheet; ComponentLink2URL: http://cds.linear.com/docs/en/datasheet/16789fs.pdf; ComponentLink3Description: Package Specification; ComponentLink3URL: http://cds.linear.com/docs/en/packaging/05081610_G_SO8.pdf
footprint LT-S8-8_N (SOIC, 8-Leads, Body 4.9x3.9mm, Pitch 1.27mm, IPC Medium Density)
footprint LT-S8-8_L (SOIC, 8-Leads, Body 4.9x3.9mm, Pitch 1.27mm, IPC High Density)
footprint LT-S8-8_M (SOIC, 8-Leads, Body 4.9x3.9mm, Pitch 1.27mm, IPC Low Density)
pins on every part: 4 V- (power), 8 V+ (power)
part A pins: 1 OUT A (out), 2 -IN A (in), 3 +IN A (in)
part B pins: 5 +IN B (in), 6 -IN B (in), 7 OUT B (out)

## LT1678IS8
designator U?
Dual Channel, Very Low 1/f Corner Frequency Precision Operational Amplifier, 20 MHz Typical GBW, 6 V/us Typical SR, 3 to 36 V, 8-Pin SOIC (S8-8), Industrial; Linear Technology Part Number: LT1678; Manufacturer: Linear Technology; PartNumber: LT1678IS8; Channels (#): 2; GBW (MHz) Typical: 20; SR (V/us) Typical: 6; Vos (mV) Guaranteed: 0.1; Vos (mV) Typical: 0.035; Vs Max (V): 36; Vs Min (V): 3; PackageVersion: Rev G; PackageReference: LT-S8-8; PackageDescription: 8-Pin Plastic Small Outline, Body 4.9 x 3.9 mm, Pitch 1.27 mm; Supplier 1: Digi-Key; Supplier Part Number 1: LT1678IS8-ND; Supplier 2: Newark; Supplier Part Number 2: 57M5698; Is (mA) Typical: 2; Type: VFB; Mounting Technology: Surface Mount; ComponentLink1Description: Manufacturer URL; ComponentLink1URL: http://www.linear.com/; ComponentLink2Description: Datasheet; ComponentLink2URL: http://cds.linear.com/docs/en/datasheet/16789fs.pdf; ComponentLink3Description: Package Specification; ComponentLink3URL: http://cds.linear.com/docs/en/packaging/05081610_G_SO8.pdf
footprint LT-S8-8_N (SOIC, 8-Leads, Body 4.9x3.9mm, Pitch 1.27mm, IPC Medium Density)
footprint LT-S8-8_L (SOIC, 8-Leads, Body 4.9x3.9mm, Pitch 1.27mm, IPC High Density)
footprint LT-S8-8_M (SOIC, 8-Leads, Body 4.9x3.9mm, Pitch 1.27mm, IPC Low Density)
pins on every part: 4 V- (power), 8 V+ (power)
part A pins: 1 OUT A (out), 2 -IN A (in), 3 +IN A (in)
part B pins: 5 +IN B (in), 6 -IN B (in), 7 OUT B (out)

## LT1678IS8#PBF
designator U?
Dual Channel, Very Low 1/f Corner Frequency Precision Operational Amplifier, 20 MHz Typical GBW, 6 V/us Typical SR, 3 to 36 V, 8-Pin SOIC (S8-8), Industrial, Pb-Free; Linear Technology Part Number: LT1678; Manufacturer: Linear Technology; PartNumber: LT1678IS8#PBF; Channels (#): 2; GBW (MHz) Typical: 20; SR (V/us) Typical: 6; Vos (mV) Guaranteed: 0.1; Vos (mV) Typical: 0.035; Vs Max (V): 36; Vs Min (V): 3; PackageVersion: Rev G; PackageReference: LT-S8-8; PackageDescription: 8-Pin Plastic Small Outline, Body 4.9 x 3.9 mm, Pitch 1.27 mm; Supplier 1: Digi-Key; Supplier Part Number 1: LT1678IS8#PBF-ND; Supplier 2: Farnell; Supplier Part Number 2: 1663468; Supplier 3: Newark; Supplier Part Number 3: 57M5699; Is (mA) Typical: 2; RoHS: Pb-Free; Type: VFB; Mounting Technology: Surface Mount; ComponentLink1Description: Manufacturer URL; ComponentLink1URL: http://www.linear.com/; ComponentLink2Description: Datasheet; ComponentLink2URL: http://cds.linear.com/docs/en/datasheet/16789fs.pdf; ComponentLink3Description: Package Specification; ComponentLink3URL: http://cds.linear.com/docs/en/packaging/05081610_G_SO8.pdf
footprint LT-S8-8_N (SOIC, 8-Leads, Body 4.9x3.9mm, Pitch 1.27mm, IPC Medium Density)
footprint LT-S8-8_L (SOIC, 8-Leads, Body 4.9x3.9mm, Pitch 1.27mm, IPC High Density)
footprint LT-S8-8_M (SOIC, 8-Leads, Body 4.9x3.9mm, Pitch 1.27mm, IPC Low Density)
pins on every part: 4 V- (power), 8 V+ (power)
part A pins: 1 OUT A (out), 2 -IN A (in), 3 +IN A (in)
part B pins: 5 +IN B (in), 6 -IN B (in), 7 OUT B (out)

## LT1678IS8#TRPBF
designator U?
Dual Channel, Very Low 1/f Corner Frequency Precision Operational Amplifier, 20 MHz Typical GBW, 6 V/us Typical SR, 3 to 36 V, 8-Pin SOIC (S8-8), Industrial, Pb-Free, Reel; Linear Technology Part Number: LT1678; Manufacturer: Linear Technology; PartNumber: LT1678IS8#TRPBF; Channels (#): 2; GBW (MHz) Typical: 20; SR (V/us) Typical: 6; Vos (mV) Guaranteed: 0.1; Vos (mV) Typical: 0.035; Vs Max (V): 36; Vs Min (V): 3; PackageVersion: Rev G; PackageReference: LT-S8-8; PackageDescription: 8-Pin Plastic Small Outline, Body 4.9 x 3.9 mm, Pitch 1.27 mm; Supplier 1: Digi-Key; Supplier Part Number 1: LT1678IS8#TRPBF-ND; Is (mA) Typical: 2; Packing: Reel; RoHS: Pb-Free; Type: VFB; Mounting Technology: Surface Mount; ComponentLink1Description: Manufacturer URL; ComponentLink1URL: http://www.linear.com/; ComponentLink2Description: Datasheet; ComponentLink2URL: http://cds.linear.com/docs/en/datasheet/16789fs.pdf; ComponentLink3Description: Package Specification; ComponentLink3URL: http://cds.linear.com/docs/en/packaging/05081610_G_SO8.pdf
footprint LT-S8-8_N (SOIC, 8-Leads, Body 4.9x3.9mm, Pitch 1.27mm, IPC Medium Density)
footprint LT-S8-8_L (SOIC, 8-Leads, Body 4.9x3.9mm, Pitch 1.27mm, IPC High Density)
footprint LT-S8-8_M (SOIC, 8-Leads, Body 4.9x3.9mm, Pitch 1.27mm, IPC Low Density)
pins on every part: 4 V- (power), 8 V+ (power)
part A pins: 1 OUT A (out), 2 -IN A (in), 3 +IN A (in)
part B pins: 5 +IN B (in), 6 -IN B (in), 7 OUT B (out)

## LT1679CS
designator U?
Quad Channel, Very Low 1/f Corner Frequency Precision Operational Amplifier, 20 MHz Typical GBW, 6 V/us Typical SR, 3 to 36 V, 14-Pin SOIC (S-14), Commercial; Linear Technology Part Number: LT1679; Manufacturer: Linear Technology; PartNumber: LT1679CS; Channels (#): 4; GBW (MHz) Typical: 20; Is (mA) Typical: 2; SR (V/us) Typical: 6; Vos (mV) Guaranteed: 0.1; Vos (mV) Typical: 0.035; Vs Max (V): 36; Vs Min (V): 3; PackageVersion: Rev G; PackageReference: LT-S-14; PackageDescription: 14-Lead Plastic Small Outline, Body 8.65 x 3.90 mm, Pitch 1.27 mm; Supplier 1: Digi-Key; Supplier Part Number 1: LT1679CS-ND; Type: VFB; Mounting Technology: Surface Mount; ComponentLink1Description: Manufacturer URL; ComponentLink1URL: http://www.linear.com/; ComponentLink2Description: Datasheet; ComponentLink2URL: http://cds.linear.com/docs/en/datasheet/16789fs.pdf; ComponentLink3Description: Package Specification; ComponentLink3URL: http://cds.linear.com/docs/en/packaging/05081610_G_S14.pdf
footprint LT-S-14_N (SOIC, 14-Leads, Body 8.65x3.90mm, Pitch 1.27mm, IPC Medium Density)
footprint LT-S-14_L (SOIC, 14-Leads, Body 8.65x3.90mm, Pitch 1.27mm, IPC High Density)
footprint LT-S-14_M (SOIC, 14-Leads, Body 8.65x3.90mm, Pitch 1.27mm, IPC Low Density)
pins on every part: 4 V+ (power), 11 V- (power)
part A pins: 1 OUT A (out), 2 -IN A (in), 3 +IN A (in)
part B pins: 5 +IN B (in), 6 -IN B (in), 7 OUT B (out)
part C pins: 8 OUT C (out), 9 -IN C (in), 10 +IN C (in)
part D pins: 12 +IN D (in), 13 -IN D (in), 14 OUT D (out)

## LT1679CS#PBF
designator U?
Quad Channel, Very Low 1/f Corner Frequency Precision Operational Amplifier, 20 MHz Typical GBW, 6 V/us Typical SR, 3 to 36 V, 14-Pin SOIC (S-14), Commercial, Pb-Free; Linear Technology Part Number: LT1679; Manufacturer: Linear Technology; PartNumber: LT1679CS#PBF; Channels (#): 4; GBW (MHz) Typical: 20; Is (mA) Typical: 2; SR (V/us) Typical: 6; Vos (mV) Guaranteed: 0.1; Vos (mV) Typical: 0.035; Vs Max (V): 36; Vs Min (V): 3; PackageVersion: Rev G; PackageReference: LT-S-14; PackageDescription: 14-Lead Plastic Small Outline, Body 8.65 x 3.90 mm, Pitch 1.27 mm; Supplier 1: Digi-Key; Supplier Part Number 1: LT1679CS#PBF-ND; Supplier 2: Farnell; Supplier Part Number 2: 1330691; Supplier 3: Newark; Supplier Part Number 3: 57M5703; RoHS: Pb-Free; Type: VFB; Mounting Technology: Surface Mount; ComponentLink1Description: Manufacturer URL; ComponentLink1URL: http://www.linear.com/; ComponentLink2Description: Datasheet; ComponentLink2URL: http://cds.linear.com/docs/en/datasheet/16789fs.pdf; ComponentLink3Description: Package Specification; ComponentLink3URL: http://cds.linear.com/docs/en/packaging/05081610_G_S14.pdf
footprint LT-S-14_N (SOIC, 14-Leads, Body 8.65x3.90mm, Pitch 1.27mm, IPC Medium Density)
footprint LT-S-14_L (SOIC, 14-Leads, Body 8.65x3.90mm, Pitch 1.27mm, IPC High Density)
footprint LT-S-14_M (SOIC, 14-Leads, Body 8.65x3.90mm, Pitch 1.27mm, IPC Low Density)
pins on every part: 4 V+ (power), 11 V- (power)
part A pins: 1 OUT A (out), 2 -IN A (in), 3 +IN A (in)
part B pins: 5 +IN B (in), 6 -IN B (in), 7 OUT B (out)
part C pins: 8 OUT C (out), 9 -IN C (in), 10 +IN C (in)
part D pins: 12 +IN D (in), 13 -IN D (in), 14 OUT D (out)

## LT1679CS#TR
designator U?
Quad Channel, Very Low 1/f Corner Frequency Precision Operational Amplifier, 20 MHz Typical GBW, 6 V/us Typical SR, 3 to 36 V, 14-Pin SOIC (S-14), Commercial, Reel; Linear Technology Part Number: LT1679; Manufacturer: Linear Technology; PartNumber: LT1679CS#TR; Channels (#): 4; GBW (MHz) Typical: 20; Is (mA) Typical: 2; SR (V/us) Typical: 6; Vos (mV) Guaranteed: 0.1; Vos (mV) Typical: 0.035; Vs Max (V): 36; Vs Min (V): 3; PackageVersion: Rev G; PackageReference: LT-S-14; PackageDescription: 14-Lead Plastic Small Outline, Body 8.65 x 3.90 mm, Pitch 1.27 mm; Supplier 1: Digi-Key; Supplier Part Number 1: LT1679CS#TR-ND; Packing: Reel; Type: VFB; Mounting Technology: Surface Mount; ComponentLink1Description: Manufacturer URL; ComponentLink1URL: http://www.linear.com/; ComponentLink2Description: Datasheet; ComponentLink2URL: http://cds.linear.com/docs/en/datasheet/16789fs.pdf; ComponentLink3Description: Package Specification; ComponentLink3URL: http://cds.linear.com/docs/en/packaging/05081610_G_S14.pdf
footprint LT-S-14_N (SOIC, 14-Leads, Body 8.65x3.90mm, Pitch 1.27mm, IPC Medium Density)
footprint LT-S-14_L (SOIC, 14-Leads, Body 8.65x3.90mm, Pitch 1.27mm, IPC High Density)
footprint LT-S-14_M (SOIC, 14-Leads, Body 8.65x3.90mm, Pitch 1.27mm, IPC Low Density)
pins on every part: 4 V+ (power), 11 V- (power)
part A pins: 1 OUT A (out), 2 -IN A (in), 3 +IN A (in)
part B pins: 5 +IN B (in), 6 -IN B (in), 7 OUT B (out)
part C pins: 8 OUT C (out), 9 -IN C (in), 10 +IN C (in)
part D pins: 12 +IN D (in), 13 -IN D (in), 14 OUT D (out)

## LT1679CS#TRPBF
designator U?
Quad Channel, Very Low 1/f Corner Frequency Precision Operational Amplifier, 20 MHz Typical GBW, 6 V/us Typical SR, 3 to 36 V, 14-Pin SOIC (S-14), Commercial, Pb-Free, Reel; Linear Technology Part Number: LT1679; Manufacturer: Linear Technology; PartNumber: LT1679CS#TRPBF; Channels (#): 4; GBW (MHz) Typical: 20; Is (mA) Typical: 2; SR (V/us) Typical: 6; Vos (mV) Guaranteed: 0.1; Vos (mV) Typical: 0.035; Vs Max (V): 36; Vs Min (V): 3; PackageVersion: Rev G; PackageReference: LT-S-14; PackageDescription: 14-Lead Plastic Small Outline, Body 8.65 x 3.90 mm, Pitch 1.27 mm; Supplier 1: Digi-Key; Supplier Part Number 1: LT1679CS#TRPBFTR-ND; Supplier 2: Digi-Key; Supplier Part Number 2: LT1679CS#TRPBFCT-ND; Supplier 3: Digi-Key; Supplier Part Number 3: LT1679CS#TRPBFDKR-ND; Packing: Reel; RoHS: Pb-Free; Type: VFB; Mounting Technology: Surface Mount; ComponentLink1Description: Manufacturer URL; ComponentLink1URL: http://www.linear.com/; ComponentLink2Description: Datasheet; ComponentLink2URL: http://cds.linear.com/docs/en/datasheet/16789fs.pdf; ComponentLink3Description: Package Specification; ComponentLink3URL: http://cds.linear.com/docs/en/packaging/05081610_G_S14.pdf
footprint LT-S-14_N (SOIC, 14-Leads, Body 8.65x3.90mm, Pitch 1.27mm, IPC Medium Density)
footprint LT-S-14_L (SOIC, 14-Leads, Body 8.65x3.90mm, Pitch 1.27mm, IPC High Density)
footprint LT-S-14_M (SOIC, 14-Leads, Body 8.65x3.90mm, Pitch 1.27mm, IPC Low Density)
pins on every part: 4 V+ (power), 11 V- (power)
part A pins: 1 OUT A (out), 2 -IN A (in), 3 +IN A (in)
part B pins: 5 +IN B (in), 6 -IN B (in), 7 OUT B (out)
part C pins: 8 OUT C (out), 9 -IN C (in), 10 +IN C (in)
part D pins: 12 +IN D (in), 13 -IN D (in), 14 OUT D (out)

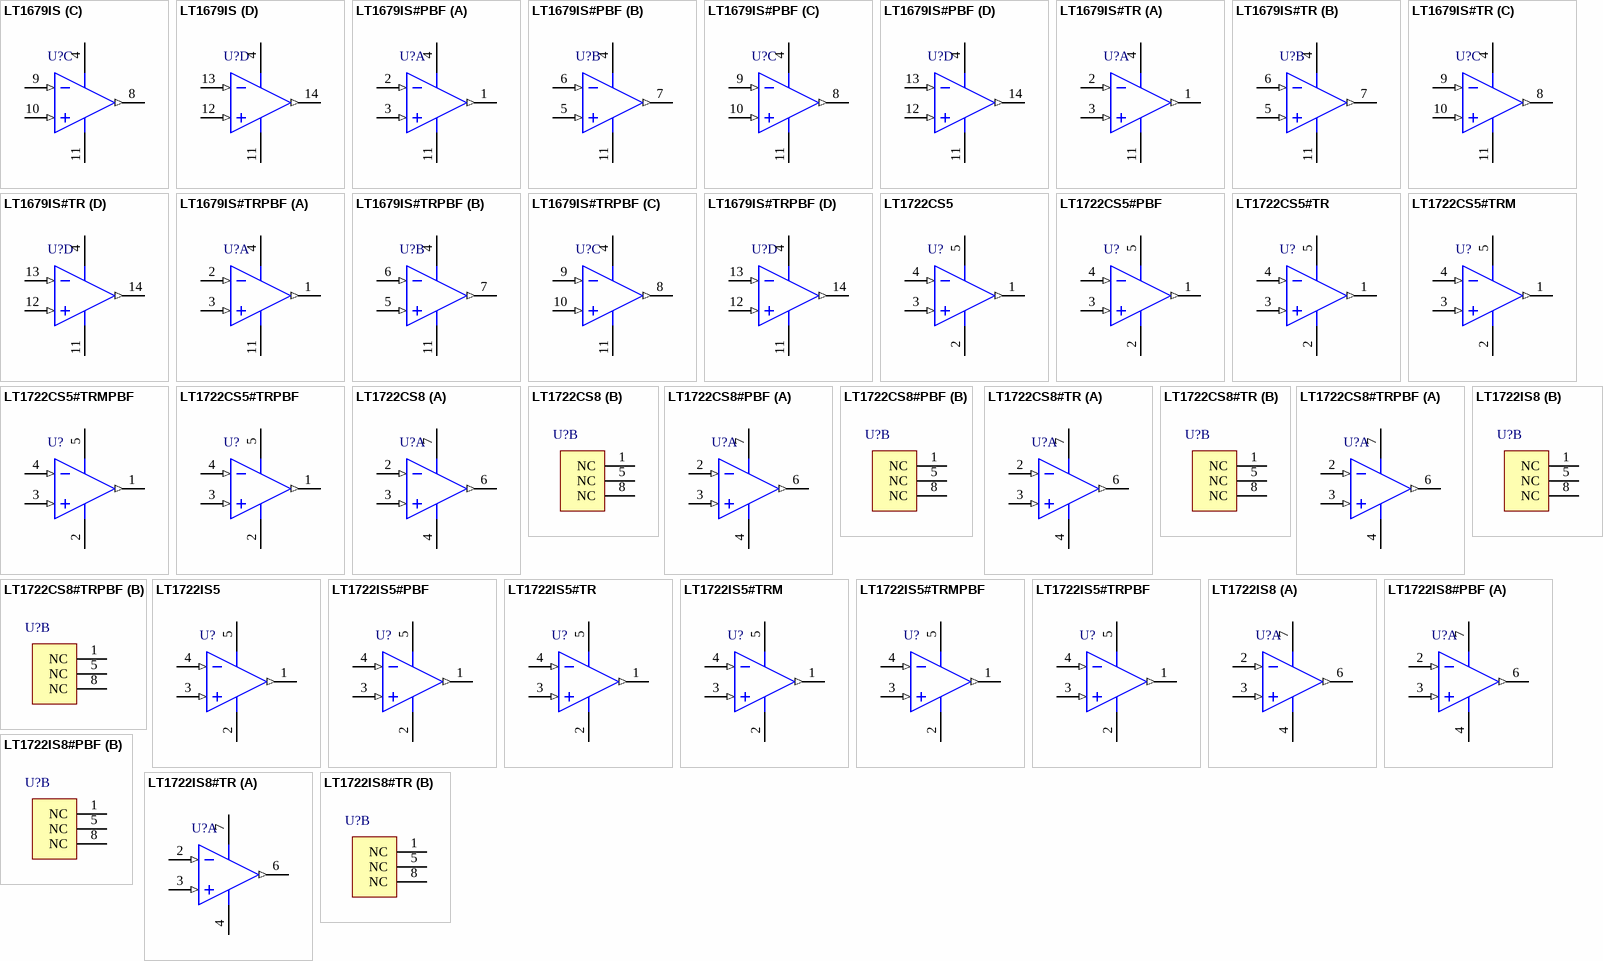
[diagram p66: symbols LT1679IS to LT1722IS8#TR]

## LT1679IS
designator U?
Quad Channel, Very Low 1/f Corner Frequency Precision Operational Amplifier, 20 MHz Typical GBW, 6 V/us Typical SR, 3 to 36 V, 14-Pin SOIC (S-14), Industrial; Linear Technology Part Number: LT1679; Manufacturer: Linear Technology; PartNumber: LT1679IS; Channels (#): 4; GBW (MHz) Typical: 20; Is (mA) Typical: 2; SR (V/us) Typical: 6; Vos (mV) Guaranteed: 0.1; Vos (mV) Typical: 0.035; Vs Max (V): 36; Vs Min (V): 3; PackageVersion: Rev G; PackageReference: LT-S-14; PackageDescription: 14-Lead Plastic Small Outline, Body 8.65 x 3.90 mm, Pitch 1.27 mm; Supplier 1: Digi-Key; Supplier Part Number 1: LT1679IS-ND; Type: VFB; Mounting Technology: Surface Mount; ComponentLink1Description: Manufacturer URL; ComponentLink1URL: http://www.linear.com/; ComponentLink2Description: Datasheet; ComponentLink2URL: http://cds.linear.com/docs/en/datasheet/16789fs.pdf; ComponentLink3Description: Package Specification; ComponentLink3URL: http://cds.linear.com/docs/en/packaging/05081610_G_S14.pdf
footprint LT-S-14_N (SOIC, 14-Leads, Body 8.65x3.90mm, Pitch 1.27mm, IPC Medium Density)
footprint LT-S-14_L (SOIC, 14-Leads, Body 8.65x3.90mm, Pitch 1.27mm, IPC High Density)
footprint LT-S-14_M (SOIC, 14-Leads, Body 8.65x3.90mm, Pitch 1.27mm, IPC Low Density)
pins on every part: 4 V+ (power), 11 V- (power)
part A pins: 1 OUT A (out), 2 -IN A (in), 3 +IN A (in)
part B pins: 5 +IN B (in), 6 -IN B (in), 7 OUT B (out)
part C pins: 8 OUT C (out), 9 -IN C (in), 10 +IN C (in)
part D pins: 12 +IN D (in), 13 -IN D (in), 14 OUT D (out)

## LT1679IS#PBF
designator U?
Quad Channel, Very Low 1/f Corner Frequency Precision Operational Amplifier, 20 MHz Typical GBW, 6 V/us Typical SR, 3 to 36 V, 14-Pin SOIC (S-14), Industrial, Pb-Free; Linear Technology Part Number: LT1679; Manufacturer: Linear Technology; PartNumber: LT1679IS#PBF; Channels (#): 4; GBW (MHz) Typical: 20; Is (mA) Typical: 2; SR (V/us) Typical: 6; Vos (mV) Guaranteed: 0.1; Vos (mV) Typical: 0.035; Vs Max (V): 36; Vs Min (V): 3; PackageVersion: Rev G; PackageReference: LT-S-14; PackageDescription: 14-Lead Plastic Small Outline, Body 8.65 x 3.90 mm, Pitch 1.27 mm; Supplier 1: Digi-Key; Supplier Part Number 1: LT1679IS#PBF-ND; Supplier 2: Newark; Supplier Part Number 2: 57M5707; RoHS: Pb-Free; Type: VFB; Mounting Technology: Surface Mount; ComponentLink1Description: Manufacturer URL; ComponentLink1URL: http://www.linear.com/; ComponentLink2Description: Datasheet; ComponentLink2URL: http://cds.linear.com/docs/en/datasheet/16789fs.pdf; ComponentLink3Description: Package Specification; ComponentLink3URL: http://cds.linear.com/docs/en/packaging/05081610_G_S14.pdf
footprint LT-S-14_N (SOIC, 14-Leads, Body 8.65x3.90mm, Pitch 1.27mm, IPC Medium Density)
footprint LT-S-14_L (SOIC, 14-Leads, Body 8.65x3.90mm, Pitch 1.27mm, IPC High Density)
footprint LT-S-14_M (SOIC, 14-Leads, Body 8.65x3.90mm, Pitch 1.27mm, IPC Low Density)
pins on every part: 4 V+ (power), 11 V- (power)
part A pins: 1 OUT A (out), 2 -IN A (in), 3 +IN A (in)
part B pins: 5 +IN B (in), 6 -IN B (in), 7 OUT B (out)
part C pins: 8 OUT C (out), 9 -IN C (in), 10 +IN C (in)
part D pins: 12 +IN D (in), 13 -IN D (in), 14 OUT D (out)